# EAGLE library part MPU-6050 (library CASE-Sensor)
MPU-6050, 6 Axis Gryo & Accelerometer, I2C Description: MPU-6050 6 Axis Gyro & Accelerometer, I2C Interface, QFN24 package. Links: Datasheet <https://www.mouser.se/datasheet/2/400/MPU-6000-Datasheet1-1112286.pdf>
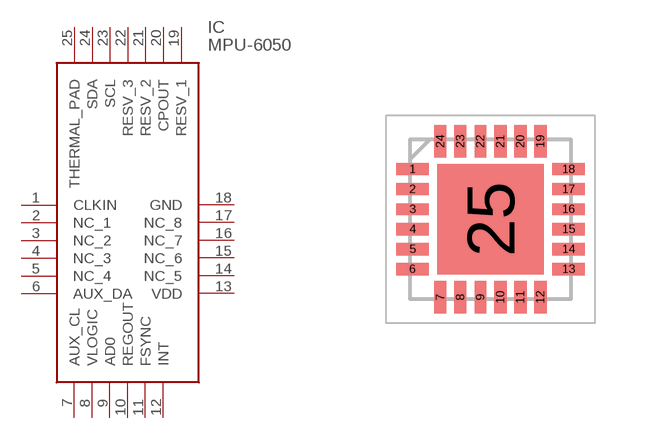
[diagram p0: symbol with the pads of QFN50P400X400X95-25N; footprint QFN50P400X400X95-25N]

Designator prefix IC

## MPU-6050 (DESCRIPTION: Gyro & Accelerometer 6 Axis I2C,MEMs InvenSense MPU-6050 6-Axis Motion Sensor Module; HEIGHT: 0.95mm; MANUFACTURER_NAME: InvenSense Inc.; MANUFACTURER_PART_NUMBER: MPU-6050; MOUSER_PART_NUMBER: N/A; MOUSER_PRICE-STOCK: http://www.mouser.com/Search/ProductDetail.aspx?qs=u4fy%2fsgLU9O14B5JgyQFvg%3d%3d)  [QFN50P400X400X95-25N]
1  CLKIN
2  NC_1
3  NC_2
4  NC_3
5  NC_4
6  AUX_DA
7  AUX_CL
8  VLOGIC
9  AD0
10  REGOUT
11  FSYNC
12  INT
13  VDD
14  NC_5
15  NC_6
16  NC_7
17  NC_8
18  GND
19  RESV_1
20  CPOUT
21  RESV_2
22  RESV_3
23  SCL
24  SDA
25  THERMAL_PAD

## Footprint QFN50P400X400X95-25N (pad centres in mm)
24 Lead QFN (4x4x0.9)
smd 0.8 x 0.3: 1 -1.95,1.25; 2 -1.95,0.75; 3 -1.95,0.25; 4 -1.95,-0.25; 5 -1.95,-0.75; 6 -1.95,-1.25; 13 1.95,-1.25; 14 1.95,-0.75; 15 1.95,-0.25; 16 1.95,0.25; 17 1.95,0.75; 18 1.95,1.25
smd 0.3 x 0.8: 7 -1.25,-1.95; 8 -0.75,-1.95; 9 -0.25,-1.95; 10 0.25,-1.95; 11 0.75,-1.95; 12 1.25,-1.95; 19 1.25,1.95; 20 0.75,1.95; 21 0.25,1.95; 22 -0.25,1.95; 23 -0.75,1.95; 24 -1.25,1.95
smd 2.65 x 2.75: 25 0,0